# Altium footprint library openmv-ae3.PcbLib: 51 footprints (part 2 of 4)
Each footprint in its own frame and in the unit in brackets; x right, y up, seen from the top. Pads: shape width x height; smd on the part's side, far side on the other; paste and mask are expansions set on the pad; w line width, h text height; cw(c..) or ccw(c..) is an arc to the next point about the centre after c.
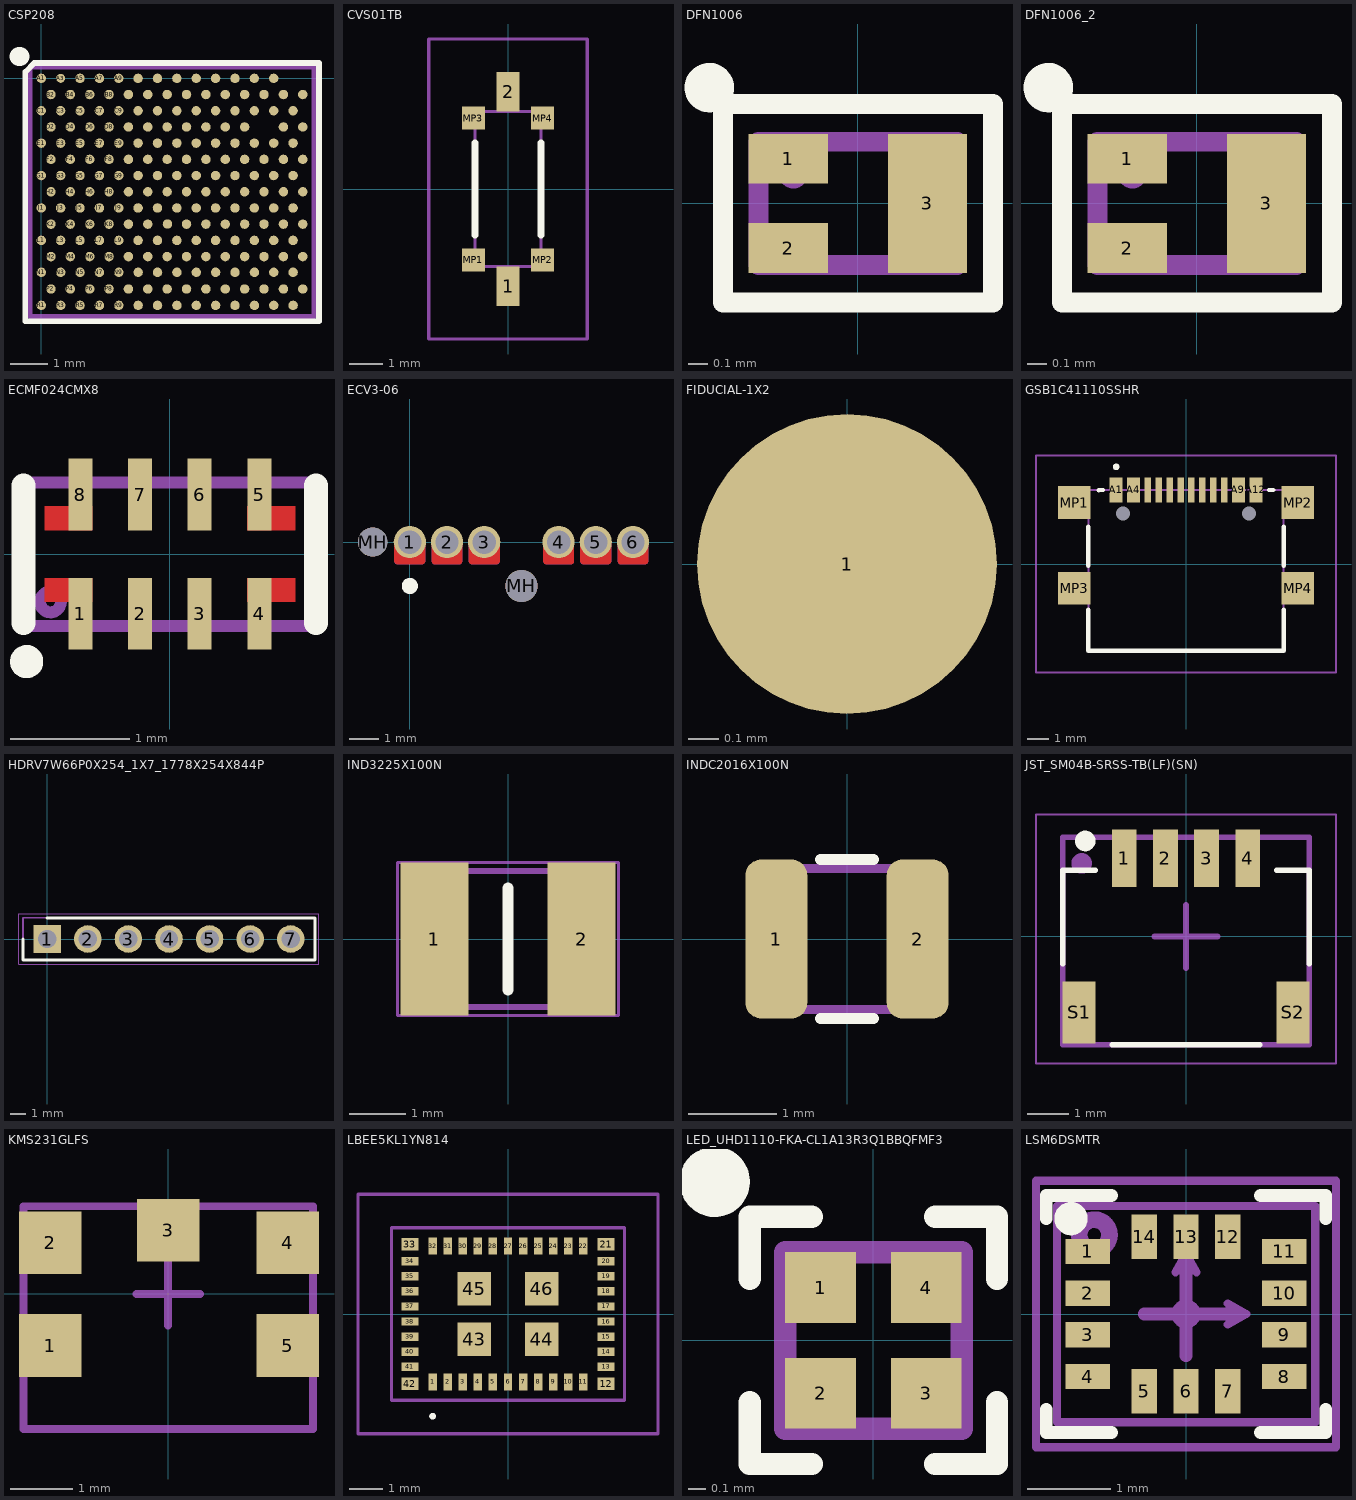
[diagram p1: the footprints below, top view; thin cyan lines are the x and y axes]

## CSP208 [mil] "LGA Package 208 pads"
height 196.85
pads (208):
  round 10 smd mask+1.18: A1(0,0) A5(40.94,0) A7(61.42,0) A9(81.89,0) A11(102.36,0) A13(122.83,0) A15(143.31,0) A17(163.78,0) A19(184.25,0) A21(204.72,0) A23(225.2,0) A25(245.67,0) B2(10.24,-17.13) B4(30.71,-17.13) B6(51.18,-17.13) B8(71.65,-17.13) B10(92.13,-17.13) B12(112.6,-17.13) B14(133.07,-17.13) B16(153.54,-17.13) B18(174.02,-17.13) B20(194.49,-17.13) B22(214.96,-17.13) B24(235.43,-17.13) B26(255.91,-17.13) B28(276.41,-17.13) C1(0,-34.25) C3(20.47,-34.25) C5(40.94,-34.25) C7(61.42,-34.25) C9(81.89,-34.25) C11(102.36,-34.25) C13(122.83,-34.25) C15(143.31,-34.25) C17(163.78,-34.25) C19(184.25,-34.25) C21(204.72,-34.25) C23(225.2,-34.25) C25(245.67,-34.25) C27(266.14,-34.25) D2(10.24,-51.38) D4(30.71,-51.38) D6(51.18,-51.38) D8(71.65,-51.38) D10(92.13,-51.38) D12(112.6,-51.38) D14(133.07,-51.38) D16(153.54,-51.38) D18(174.02,-51.38) D20(194.49,-51.38) D22(214.96,-51.38) D26(255.91,-51.38) D28(276.41,-51.38) E1(0,-68.5) E3(20.47,-68.5) E5(40.94,-68.5) E7(61.42,-68.5) E9(81.89,-68.5) E11(102.36,-68.5) E13(122.83,-68.5) E15(143.31,-68.5) E17(163.78,-68.5) E19(184.25,-68.5) E21(204.72,-68.5) E23(225.2,-68.5) E25(245.67,-68.5) E27(266.14,-68.5) F2(10.24,-85.63) F4(30.71,-85.63) F6(51.18,-85.63) F8(71.65,-85.63) F10(92.13,-85.63) F12(112.6,-85.63) F14(133.07,-85.63) F16(153.54,-85.63) F18(174.02,-85.63) F20(194.49,-85.63) F22(214.96,-85.63) F24(235.43,-85.63) F26(255.91,-85.63) F28(276.41,-85.63) G1(0,-102.76) G3(20.47,-102.76) G5(40.94,-102.76) G7(61.42,-102.76) G9(81.89,-102.76) G11(102.36,-102.76) G13(122.83,-102.76) G15(143.31,-102.76) G17(163.78,-102.76) G19(184.25,-102.76) G21(204.72,-102.76) G23(225.2,-102.76) G25(245.67,-102.76) G27(266.14,-102.76) H2(10.24,-119.88) H4(30.71,-119.88) H6(51.18,-119.88) H8(71.65,-119.88) H10(92.13,-119.88) H12(112.6,-119.88) H14(133.07,-119.88) H16(153.54,-119.88) H18(174.02,-119.88) H20(194.49,-119.88) H22(214.96,-119.88) H24(235.43,-119.88) H26(255.91,-119.88) H28(276.41,-119.88) J1(0,-137.01) J3(20.47,-137.01) J5(40.94,-137.01) J7(61.42,-137.01) J9(81.89,-137.01) J11(102.36,-137.01) J13(122.83,-137.01) J15(143.31,-137.01) J17(163.78,-137.01) J19(184.25,-137.01) J21(204.72,-137.01) J23(225.2,-137.01) J25(245.67,-137.01) J27(266.14,-137.01) K2(10.24,-154.13) K4(30.71,-154.13) K6(51.18,-154.13) K8(71.65,-154.13) K10(92.13,-154.13) K12(112.6,-154.13) K14(133.39,-153.98) K16(153.54,-154.13) K18(174.02,-154.13) K20(194.49,-154.13) K22(214.96,-154.13) K24(235.43,-154.13) K26(255.91,-154.13) K28(276.41,-154.13) L1(0,-171.26) L3(20.47,-171.26) L5(40.94,-171.26) L7(61.42,-171.26) L9(81.89,-171.26) L11(102.36,-171.26) L13(122.83,-171.26) L15(143.31,-171.26) L17(163.78,-171.26) L19(184.25,-171.26) L21(204.72,-171.26) L23(225.2,-171.26) L25(245.67,-171.26) L27(266.14,-171.26) M2(10.24,-188.39) M4(30.71,-188.39) M6(51.18,-188.39) M8(71.65,-188.39) M10(92.13,-188.39) M12(112.6,-188.39) M14(133.07,-188.39) M16(153.54,-188.39) M18(174.02,-188.39) M20(194.49,-188.39) M22(214.96,-188.39) M24(235.43,-188.39) M26(255.91,-188.39) M28(276.41,-188.39) N1(0.06,-205.02) N3(20.53,-205.02) N5(41.01,-205.02) N7(61.48,-205.02) N9(81.95,-205.02) N11(102.42,-205.02) N13(122.9,-205.02) N15(143.37,-205.02) N17(163.84,-205.02) N19(184.31,-205.02) N21(204.79,-205.02) N23(225.26,-205.02) N25(245.73,-205.02) N27(266.2,-205.02) P2(10.24,-222.64) P4(30.71,-222.64) P6(51.18,-222.64) P8(71.65,-222.64) P10(92.13,-222.64) P12(112.6,-222.64) P14(133.07,-222.64) P16(153.54,-222.64) P18(174.02,-222.64) P20(194.49,-222.64) P22(214.96,-222.64) P24(235.43,-222.64) P26(255.91,-222.64) P28(276.41,-222.64) R1(0.06,-239.92) R3(20.53,-239.92) R5(41.01,-239.92) R7(61.48,-239.92) R9(81.95,-239.92) R11(102.42,-239.92) R13(122.9,-239.92) R15(143.37,-239.92) R17(163.84,-239.92) R19(184.31,-239.92) R21(204.79,-239.92) R23(225.26,-239.92) R25(245.73,-239.92) R27(266.2,-239.92)
  round 9.45 smd mask+1.18: A3(20.47,0)
Top Overlay:
  lines w5.91: -16.79,-256.91 -16.79,6.81 -7.4,16.2 293.55,16.2 293.55,-256.91 -16.79,-256.91
  lines w20: -23.53,22.98 -22.54,22.98
Mechanical 1:
  lines w5: -11.81,-251.8 -11.81,11.81 288.3,11.81 288.3,-251.8 -11.81,-251.8
3D body: height 21.85, standoff 0, extent -11.83,-251.7 288.2,12
3D body: height 22, standoff 0, extent 8.9,-29.9 28.9,-9.9

## CVS01TB [mm]
pads (6):
  rect 0.7x1.2 smd: 1(0,-2.95) 2(0,2.95)
  rect 0.7x0.7 smd: MP1(-1.05,-2.15) MP2(1.05,-2.15) MP3(-1.05,2.15) MP4(1.05,2.15)
Top Overlay:
  lines w0.2: -1,-1.4 -1,1.4 ; 1,-1.4 1,1.4
Mechanical 13:
  lines w0.1: -1,-2.35 1,-2.35 1,2.35 -1,2.35 -1,-2.35
Mechanical 15:
  lines w0.1: -2.4,-4.55 2.4,-4.55 2.4,4.55 -2.4,4.55 -2.4,-4.55
3D body "CVS-01TB.stp": height 1.55, standoff 0, extent -1.33,-3.48 1.33,3.48

## DFN1006 [mm]
height 0.5
pads (3):
  rect 0.4x0.25 smd paste+0 mask+0.05: 1(-0.35,0.225) 2(-0.35,-0.225)
  rect 0.4x0.7 smd paste+0 mask+0.05: 3(0.35,0)
Top Overlay:
  circle w0.125: c-0.749,0.582 r0.062
  lines w0.1: -0.68,-0.5 0.68,-0.5 0.68,0.5 -0.68,0.5 -0.68,-0.5
Top 3D Body:
  circle w0.1: c-0.325,0.15 r0.025
  lines w0.1: -0.5,-0.31 -0.5,0.31 0.5,0.31 0.5,-0.31 -0.5,-0.31
  text ".designator" at -0.406,-0.229 h0.3
3D body: height 0.5, standoff 0, extent -0.5,-0.31 0.5,0.31

## DFN1006_2 [mm]
pads (3):
  rect 0.4x0.25 smd paste+0 mask+0.05: 1(-0.35,0.225) 2(-0.35,-0.225)
  rect 0.4x0.7 smd paste+0 mask+0.05: 3(0.35,0)
Top Overlay:
  circle w0.125: c-0.749,0.582 r0.062
  lines w0.1: -0.68,-0.5 0.68,-0.5 0.68,0.5 -0.68,0.5 -0.68,-0.5
Top 3D Body:
  circle w0.1: c-0.325,0.15 r0.025
  lines w0.1: -0.5,-0.31 -0.5,0.31 0.5,0.31 0.5,-0.31 -0.5,-0.31
  text ".designator" at -0.406,-0.229 h0.3
3D body: height 0.5, standoff 0, extent -0.5,-0.31 0.5,0.31

## ECMF024CMX8 [mm] "ECMF024CMX8"
pads (8):
  rect 0.2x0.6 smd: 1(-0.75,-0.5) 2(-0.25,-0.5) 3(0.25,-0.5) 4(0.75,-0.5) 5(0.75,0.5) 6(0.25,0.5) 7(-0.25,0.5) 8(-0.75,0.5)
Top Layer:
  region: 0.65,0.2 0.65,0.4 1.05,0.4 1.05,0.2
  region: 0.65,-0.2 0.65,-0.4 1.05,-0.4 1.05,-0.2
  region: -0.65,-0.2 -0.65,-0.4 -1.05,-0.4 -1.05,-0.2
  region: -0.65,0.2 -0.65,0.4 -1.05,0.4 -1.05,0.2
Top Overlay:
  circle w0.15: c-1.2,-0.9 r0.064
  lines w0.2: -1.225,-0.575 -1.225,0.575 ; 1.225,-0.575 1.225,0.575
Top 3D Body:
  circle w0.1: c-1,-0.4 r0.087
  lines w0.1: -1.25,-0.6 -1.25,0.6 1.25,0.6 1.25,-0.6 -1.25,-0.6
  text ".designator" at -0.85,-1.373 h0.76
3D body: height 0.5, standoff 0, extent -1.25,-0.6 1.25,0.6

## ECV3-06 [mm] "Tag-Connect ECV3-06 Edge-Connect Test Connector Castellated (NO BOM)"
pads (8):
  round 1.1 hole 0.8 paste+0 mask+0: 1(0,0) 2(1.27,0) 3(2.54,0) 4(5.08,0) 5(6.35,0) 6(7.62,0)
  round 1 hole 1 unplated: MH(-1.27,0)
  round 1.1 hole 1.1 unplated: MH(3.81,-1.5)
Top Layer:
  region: 0.425,-0.75 0.445,-0.75 0.482,-0.735 0.51,-0.707 0.525,-0.67 0.525,-0.65 0.525,0 -0.525,0 -0.525,-0.65 -0.525,-0.67 -0.51,-0.707 -0.482,-0.735 -0.445,-0.75 -0.425,-0.75
  region: 1.695,-0.75 1.715,-0.75 1.752,-0.735 1.78,-0.707 1.795,-0.67 1.795,-0.65 1.795,0 0.745,0 0.745,-0.65 0.745,-0.67 0.76,-0.707 0.788,-0.735 0.825,-0.75 0.845,-0.75
  region: 2.965,-0.75 2.985,-0.75 3.022,-0.735 3.05,-0.707 3.065,-0.67 3.065,-0.65 3.065,0 2.015,0 2.015,-0.65 2.015,-0.67 2.03,-0.707 2.058,-0.735 2.095,-0.75 2.115,-0.75
  region: 5.505,-0.75 5.525,-0.75 5.562,-0.735 5.59,-0.707 5.605,-0.67 5.605,-0.65 5.605,0 4.555,0 4.555,-0.65 4.555,-0.67 4.57,-0.707 4.598,-0.735 4.635,-0.75 4.655,-0.75
  region: 6.775,-0.75 6.795,-0.75 6.832,-0.735 6.86,-0.707 6.875,-0.67 6.875,-0.65 6.875,0 5.825,0 5.825,-0.65 5.825,-0.67 5.84,-0.707 5.868,-0.735 5.905,-0.75 5.925,-0.75
  region: 8.045,-0.75 8.065,-0.75 8.102,-0.735 8.13,-0.707 8.145,-0.67 8.145,-0.65 8.145,0 7.095,0 7.095,-0.65 7.095,-0.67 7.11,-0.707 7.138,-0.735 7.175,-0.75 7.195,-0.75
Bottom Layer:
  region: 0.425,-0.75 0.445,-0.75 0.482,-0.735 0.51,-0.707 0.525,-0.67 0.525,-0.65 0.525,0 -0.525,0 -0.525,-0.65 -0.525,-0.67 -0.51,-0.707 -0.482,-0.735 -0.445,-0.75 -0.425,-0.75
  region: 1.695,-0.75 1.715,-0.75 1.752,-0.735 1.78,-0.707 1.795,-0.67 1.795,-0.65 1.795,0 0.745,0 0.745,-0.65 0.745,-0.67 0.76,-0.707 0.788,-0.735 0.825,-0.75 0.845,-0.75
  region: 2.965,-0.75 2.985,-0.75 3.022,-0.735 3.05,-0.707 3.065,-0.67 3.065,-0.65 3.065,0 2.015,0 2.015,-0.65 2.015,-0.67 2.03,-0.707 2.058,-0.735 2.095,-0.75 2.115,-0.75
  region: 5.505,-0.75 5.525,-0.75 5.562,-0.735 5.59,-0.707 5.605,-0.67 5.605,-0.65 5.605,0 4.555,0 4.555,-0.65 4.555,-0.67 4.57,-0.707 4.598,-0.735 4.635,-0.75 4.655,-0.75
  region: 6.775,-0.75 6.795,-0.75 6.832,-0.735 6.86,-0.707 6.875,-0.67 6.875,-0.65 6.875,0 5.825,0 5.825,-0.65 5.825,-0.67 5.84,-0.707 5.868,-0.735 5.905,-0.75 5.925,-0.75
  region: 8.045,-0.75 8.065,-0.75 8.102,-0.735 8.13,-0.707 8.145,-0.67 8.145,-0.65 8.145,0 7.095,0 7.095,-0.65 7.095,-0.67 7.11,-0.707 7.138,-0.735 7.175,-0.75 7.195,-0.75
Top Overlay:
  circle w0.3: c0,-1.5 r0.125
Top Solder:
  rectangle: 1.675,-0.75 2.125,0
  rectangle: 2.945,-0.75 3.395,0
  rectangle: 4.215,-0.75 4.665,0
  rectangle: 5.485,-0.75 5.935,0
  rectangle: 6.755,-0.75 7.205,0
  rectangle: 8.025,-0.75 8.475,0
  region: -0.405,0 -0.62,0 -0.62,-0.75 -0.405,-0.75
  rectangle: 0.405,-0.75 0.855,0
  rectangle: -0.94,-0.75 -0.59,0
Bottom Solder:
  region: -0.405,0 -0.62,0 -0.62,-0.75 -0.405,-0.75
  rectangle: 0.405,-0.75 0.855,0
  rectangle: 1.675,-0.75 2.125,0
  rectangle: 2.945,-0.75 3.395,0
  rectangle: 4.215,-0.75 4.665,0
  rectangle: 5.485,-0.75 5.935,0
  rectangle: 6.755,-0.75 7.205,0
  rectangle: 8.025,-0.75 8.475,0
3D body "EC3-6Pin Defeatured.STEP": height 12.25, standoff -4.49, extent -2.69,-2.895 10.31,90.743

## FIDUCIAL-1X2 [mm] "FIDUCIAL-1X2"
pads (1):
  rrect100% 1x1 smd paste+0: 1(0,0)

## GSB1C41110SSHR [mm]
pads (18):
  rect 0.6x1.15 smd: A1(-3.2,3.39) A4(-2.4,3.39) A9(2.4,3.39) A12(3.2,3.39)
  rect 0.3x1.15 smd: A5(-1.25,3.39) A6(-0.25,3.39) A7(0.25,3.39) A8(1.25,3.39) B5(1.75,3.39) B6(0.75,3.39) B7(-0.75,3.39) B8(-1.75,3.39)
  round 0.325 hole 0.65 unplated: MH1(-2.89,2.315) MH2(2.89,2.315)
  rect 1.5x1.5 smd: MP1(-5.12,2.815) MP2(5.12,2.815) MP3(-5.12,-1.115) MP4(5.12,-1.115)
Top Overlay:
  lines w0.2: -4.47,-2.088 -4.47,-3.965 4.47,-3.965 4.47,-2.088 ; -4.47,-0.088 -4.47,1.712 ; -4,3.385 -3.8,3.39 ; 3.8,3.39 4,3.39 ; 4.47,-0.088 4.47,1.712 ; -3.2,4.4 cw(c-3.2,4.45) -3.2,4.5 ; -3.2,4.4 ccw(c-3.2,4.45) -3.2,4.5 ; -3.2,4.4 cw(c-3.2,4.45) -3.2,4.5
Mechanical 13:
  lines w0.1: -4.47,-3.965 4.47,-3.965 4.47,3.385 -4.47,3.385 -4.47,-3.965
Mechanical 15:
  lines w0.1: -6.87,-4.965 6.87,-4.965 6.87,4.965 -6.87,4.965 -6.87,-4.965
3D body "GSB1C41110SSHR.stp": height 3.18, standoff -0.7, extent -5.67,-3.915 5.67,3.683

## HDRV7W66P0X254_1X7_1778X254X844P [mm]
pads (7):
  rect 1.725x1.725 hole 1.15: 1(0,0)
  round 1.725 hole 1.15: 2(2.54,0) 3(5.08,0) 4(7.62,0) 5(10.16,0) 6(12.7,0) 7(15.24,0)
Top Overlay:
  lines w0.2: -1.52,0 -1.52,-1.32 16.76,-1.32 16.76,1.32 0,1.32
Mechanical 13:
  lines w0.05: -1.77,-1.57 17.01,-1.57 17.01,1.57 -1.77,1.57 -1.77,-1.57
Mechanical 15:
  lines w0.1: -1.52,-1.32 16.76,-1.32 16.76,1.32 -1.52,1.32 -1.52,-1.32

## IND3225X100N [mm]
pads (2):
  rect 1.2x2.7 smd: 1(-1.3,0) 2(1.3,0)
Top Overlay:
  lines w0.2: 0,-0.9 0,0.9
Top 3D Body:
  lines w0.1: -1.6,-1.2 1.6,-1.2 1.6,1.2 -1.6,1.2 -1.6,-1.2
Mechanical 20:
  lines w0.05: -1.95,-1.35 1.95,-1.35 1.95,1.35 -1.95,1.35 -1.95,-1.35
3D body: height 1, standoff 0, extent -1.6,-1.2 1.6,1.2

## INDC2016X100N [mm] "INDC2016X100N"
pads (2):
  rrect50% 0.7x1.8 smd: 1(-0.8,0) 2(0.8,0)
Top Overlay:
  lines w0.127: -0.3,-0.9 0.3,-0.9 ; -0.3,0.9 0.3,0.9
Top 3D Body:
  lines w0.1: -1,-0.8 -1,0.8 1,0.8 1,-0.8 -1,-0.8
  text ".designator" at -1,-0.95 h0.64
3D body: height 1, standoff 0, extent -1,-0.8 1,0.8

## JST_SM04B-SRSS-TB(LF)(SN) [mm]
pads (6):
  rect 0.6x1.4 smd: 1(-1.5,1.9) 2(-0.5,1.9) 3(0.5,1.9) 4(1.5,1.9)
  rect 0.8x1.5 smd: S1(-2.6,-1.85) S2(2.6,-1.85)
Top Overlay:
  circle w0.3: c-2.45,2.323 r0.1
  lines w0.127: -3,-0.662 -3,1.613 -2.2,1.613 ; -1.8,-2.637 1.8,-2.637 ; 2.2,1.613 3,1.613 3,-0.662
Top 3D Body:
  circle w0.3: c-2.54,1.778 r0.1
  lines w0.127: -3,-2.637 -3,2.413 3,2.413 3,-2.637 -3,-2.637
  lines w0.15: -0.762,0 0,0 ; 0,-0.762 0,0 ; 0,0.762 0,0 ; 0.762,0 0,0
  text ".designator" at -2.667,-2.743 h0.76
Top Courtyard:
  lines w0.05: -3.65,-3.087 -3.65,2.963 3.65,2.963 3.65,-3.087 -3.65,-3.087
3D body "SM04B-SRSS-TB.STEP": height 2.96, standoff 0, extent -3,-2.592 3,2.358

## KMS231GLFS [mm]
pads (5):
  rect 1x1 smd: 1(-1.88,-0.825) 2(-1.88,0.813) 3(0,1.016) 4(1.905,0.813) 5(1.905,-0.825)
Top 3D Body:
  lines w0.127: -0.508,0 0,0 ; 0,-0.508 0,0 ; 0,0.508 0,0 ; 0.508,0 0,0 ; -2.311,-2.159 -2.311,1.397 2.311,1.397 2.311,-2.159 -2.311,-2.159
  text ".designator" at -2.108,-2.277 h0.64
3D body "KMS231GLFS.stp": height 1.43, standoff -0.01, extent -2.3,-2.15 2.3,1.4

## LBEE5KL1YN814 [mm]
pads (46):
  rect 0.25x0.5 smd: 1(-2.25,-2.025) 2(-1.8,-2.025) 3(-1.35,-2.025) 4(-0.9,-2.025) 5(-0.45,-2.025) 6(0,-2.025) 7(0.45,-2.025) 8(0.9,-2.025) 9(1.35,-2.025) 10(1.8,-2.025) 11(2.25,-2.025) 22(2.25,2.025) 23(1.8,2.025) 24(1.35,2.025) 25(0.9,2.025) 26(0.45,2.025) 27(0,2.025) 28(-0.45,2.025) 29(-0.9,2.025) 30(-1.35,2.025) 31(-1.8,2.025) 32(-2.25,2.025)
  rect 0.5x0.375 smd: 12(2.925,-2.087) 21(2.925,2.087) 33(-2.925,2.087) 42(-2.925,-2.087)
  rect 0.5x0.25 smd: 13(2.925,-1.575) 14(2.925,-1.125) 15(2.925,-0.675) 16(2.925,-0.225) 17(2.925,0.225) 18(2.925,0.675) 19(2.925,1.125) 20(2.925,1.575) 34(-2.925,1.575) 35(-2.925,1.125) 36(-2.925,0.675) 37(-2.925,0.225) 38(-2.925,-0.225) 39(-2.925,-0.675) 40(-2.925,-1.125) 41(-2.925,-1.575)
  rect 1x1 smd: 43(-1,-0.75) 44(1,-0.75) 45(-1,0.75) 46(1,0.75)
Top Overlay:
  lines w0.1: -2.25,-3.1 ccw(c-2.25,-3.05) -2.25,-3 ccw(c-2.25,-3.05) -2.25,-3.1
Mechanical 13:
  lines w0.1: -3.475,-2.575 -3.475,2.575 3.475,2.575 3.475,-2.575 -3.475,-2.575
Mechanical 15:
  lines w0.1: -4.475,-3.575 -4.475,3.575 4.475,3.575 4.475,-3.575 -4.475,-3.575
3D body "LBEE5KL1YN-814.stp": height 1.2, standoff 0, extent -3.475,-2.575 3.475,2.575

## LED_UHD1110-FKA-CL1A13R3Q1BBQFMF3 [mm] "LED_UHD1110-FKA-CL1A13R3Q1BBQFMF3"
pads (4):
  rect 0.4x0.4 smd: 1(-0.3,0.3) 2(-0.3,-0.3) 3(0.3,-0.3) 4(0.3,0.3)
Top Overlay:
  circle w0.2: c-0.9,0.9 r0.1
  lines w0.127: -0.7,-0.35 -0.7,-0.7 -0.35,-0.7 ; -0.7,0.35 -0.7,0.7 -0.35,0.7 ; 0.35,-0.7 0.7,-0.7 0.7,-0.35 ; 0.35,0.7 0.7,0.7 0.7,0.35
Top 3D Body:
  circle w0.127: c-0.3,0.3 r0.06
  lines w0.127: -0.5,-0.5 -0.5,0.5 0.5,0.5 0.5,-0.5 -0.5,-0.5
  text ".designator" at -0.7,0.35 h0.64
3D body: height 0.6, standoff 0, extent -0.5,-0.5 0.5,0.5
3D body: height 0.62, standoff 0, extent -0.34,0.049 -0.155,0.3
3D body: height 0.62, standoff 0, extent -0.35,-0.3 -0.161,-0.05
3D body: height 0.62, standoff 0, extent 0.2,-0.2 0.357,0.2

## LSM6DSMTR [mil] "Accelerometer, Gyroscope, Temperature, 6 Axis Sensor I²C, SPI Output"
pads (14):
  rect 21x12 smd paste-2.1 mask+2: 1(-46.5,29.53) 2(-46.5,9.84) 3(-46.5,-9.84) 4(-46.5,-29.53) 8(46.5,-29.53) 9(46.5,-9.84) 10(46.5,9.84) 11(46.5,29.53)
  rect 12x21 smd paste-2.1 mask+2: 5(-19.68,-36.5) 6(0,-36.5) 7(19.68,-36.5) 12(19.68,36.5) 13(0,36.5) 14(-19.68,36.5)
Top Overlay:
  circle w7.87: c-54.34,45.06 r3.94
  lines w6: -66,-45.05 -66,-56 -35.2,-56 ; -66,45.05 -66,56 -35.2,56 ; 35.2,-56 66,-56 66,-45.05 ; 35.2,56 66,56 66,45.05
Mechanical 13:
  circle w7.87: c-43.31,37.4 r7.17
  lines w3.94: -70.87,-62.99 -70.87,62.99 70.87,62.99 70.87,-62.99 -70.87,-62.99
  lines w6: -19.68,0 0,0 ; 0,-19.68 0,0 ; 0,19.68 0,0 ; 19.68,0 0,0
Mechanical 15:
  circle w7.87: c-43.31,37.4 r7.17
  circle w7.87: c0,0 r2.95
  lines w3.94: -4.92,19.68 0,28.54 ; 4.92,19.68 0,28.54 ; 19.68,-4.92 28.54,0 ; 19.68,4.92 28.54,0 ; 0,28.54 0,0 28.54,0 ; -60.98,-51.18 61.02,-51.18 61.02,50.99 -60.98,50.99 -60.98,-51.18
  text "X" at 33.46,-6.89 h11.81
  text "Y" at -3.94,33.46 h11.81
  text "Z" at -17.72,-5.91 h11.81
  text ".designator" at -51.18,62.99 h25
3D body "lsm6dsmtr.step": height 34.09, standoff 0, extent -60.98,-50.98 60.99,50.99